# Altium footprint library Molex.PcbLib: 2 footprints
Each footprint in its own frame and in the unit in brackets; x right, y up, seen from the top. Pads: shape width x height; smd on the part's side, far side on the other; paste and mask are expansions set on the pad; w line width, h text height; cw(c..) or ccw(c..) is an arc to the next point about the centre after c.
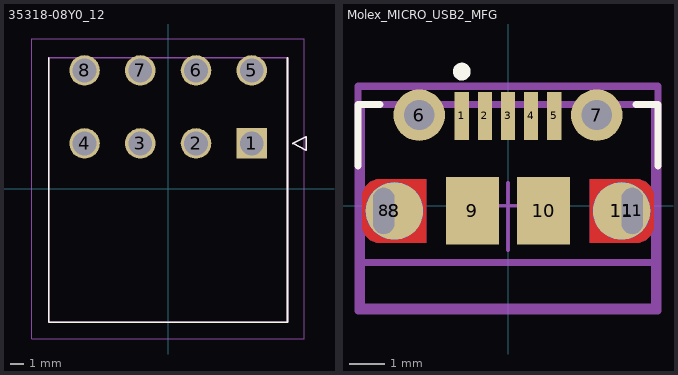
[diagram p0: the footprints below, top view; thin cyan lines are the x and y axes]

## 35318-08Y0_12 [mm]
pads (8):
  rect 2.3x2.3 hole 1.8: 1(6.3,3.425)
  round 2.3 hole 1.8: 2(2.1,3.425) 3(-2.1,3.425) 4(-6.3,3.425) 5(6.3,8.925) 6(2.1,8.925) 7(-2.1,8.925) 8(-6.3,8.925)
Top Overlay:
  lines w0.127: -9,9.893 -9,-10.043 9,-10.043 9,9.893 ; 9.4,3.425 10.4,2.925 10.4,3.925 9.4,3.425
Mechanical 13:
  lines w0.127: -9,-10.043 9,-10.043 9,9.893 -9,9.893 -9,-10.043 ; 9.4,3.425 10.4,2.925 10.4,3.925 9.4,3.425
Mechanical 15:
  lines w0.05: -10.27,-11.313 10.27,-11.313 10.27,11.294 -10.27,11.294 -10.27,-11.313
3D body "35318-0820.stp": height 11.3, standoff -4.1, extent -9.05,-10.475 9.347,9.46

## Molex_MICRO_USB2_MFG [mm] "105017-0001"
pads (15):
  rect 0.4x1.35 smd paste+0 mask+0: 1(-1.3,2.525) 2(-0.65,2.525) 3(0,2.525) 4(0.65,2.525) 5(1.3,2.525)
  round 1.45 hole 0.85 paste-2539.97 mask+0: 6(-2.5,2.55) 7(2.5,2.55)
  rrect100% 0.6x1.3 hole 0.6 slot 1.3 at 90 deg paste-2539.97 mask+0: 8(-3.5,-0.15) 11(3.5,-0.15)
  round 1.62 smd far side paste-1000 mask+0: 8(-3.2,-0.15) 11(3.2,-0.15)
  round 1.62 smd paste-1000 mask+0: 8(-3.2,-0.15) 11(3.2,-0.15)
  rect 1.5x1.9 smd paste+0 mask+0: 9(-1,-0.15) 10(1,-0.15)
Top Layer:
  region: 2.3,-1.05 3.6,-1.05 3.699,-1.05 3.883,-0.974 4.024,-0.833 4.1,-0.649 4.1,-0.55 4.1,0.25 4.1,0.349 4.024,0.533 3.883,0.674 3.699,0.75 3.6,0.75 2.3,0.75
  region: -2.3,-1.05 -3.6,-1.05 -3.699,-1.05 -3.883,-0.974 -4.024,-0.833 -4.1,-0.649 -4.1,-0.55 -4.1,0.25 -4.1,0.349 -4.024,0.533 -3.883,0.674 -3.699,0.75 -3.6,0.75 -2.3,0.75
Bottom Layer:
  region: 2.3,-1.05 3.6,-1.05 3.699,-1.05 3.883,-0.974 4.024,-0.833 4.1,-0.649 4.1,-0.55 4.1,0.25 4.1,0.349 4.024,0.533 3.883,0.674 3.699,0.75 3.6,0.75 2.3,0.75
  region: -2.3,-1.05 -3.6,-1.05 -3.699,-1.05 -3.883,-0.974 -4.024,-0.833 -4.1,-0.649 -4.1,-0.55 -4.1,0.25 -4.1,0.349 -4.024,0.533 -3.883,0.674 -3.699,0.75 -3.6,0.75 -2.3,0.75
Top Overlay:
  circle w0.25: c-1.3,3.775 r0.125
  lines w0.2: -4.225,1.125 -4.225,2.85 -3.6,2.85 ; 3.6,2.85 4.225,2.85 4.225,1.125
Mechanical 10:
  lines w0.2: -4.225,-2.963 -4.225,3.363 4.225,3.363 4.225,-2.963 -4.225,-2.963
  text ".Designator" at 0,0.199 h1
Mechanical 12:
  lines w0.2: -4.225,-1.6 4.225,-1.6 ; -4.125,-2.85 -4.125,2.85 4.125,2.85 4.125,-2.85 -4.125,-2.85
Mechanical 15:
  lines w0.1: -0.949,0 0.949,0 ; 0,-1.249 0,0.649
  lines w0.2: -4.225,-2.963 -4.225,3.363 4.225,3.363 4.225,-2.963 -4.225,-2.963
3D body "Conn_Molex_1050170001_eec.STEP": height 0.25, standoff 0, extent -4.225,-2.963 4.225,3.363